# Altium footprint library bio_components.PcbLib: 2 footprints
Each footprint in its own frame and in the unit in brackets; x right, y up, seen from the top. Pads: shape width x height; smd on the part's side, far side on the other; paste and mask are expansions set on the pad; w line width, h text height; cw(c..) or ccw(c..) is an arc to the next point about the centre after c.
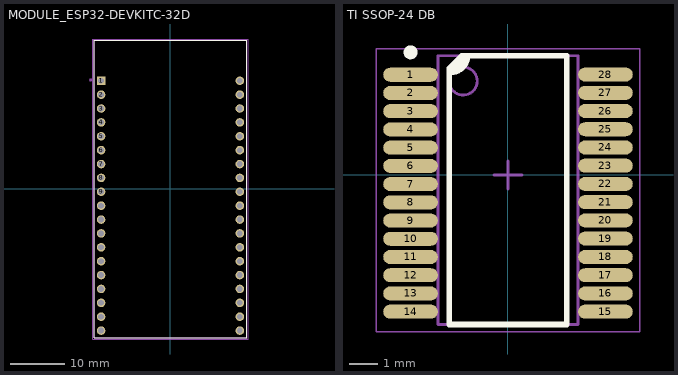
[diagram p0: the footprints below, top view; thin cyan lines are the x and y axes]

## MODULE_ESP32-DEVKITC-32D [mm]
pads (38):
  rect 1.56x1.56 hole 1.04: 1(-12.7,19.76)
  round 1.56 hole 1.04: 2(-12.7,17.22) 3(-12.7,14.68) 4(-12.7,12.14) 5(-12.7,9.6) 6(-12.7,7.06) 7(-12.7,4.52) 8(-12.7,1.98) 9(-12.7,-0.56) 10(-12.7,-3.1) 11(-12.7,-5.64) 12(-12.7,-8.18) 13(-12.7,-10.72) 14(-12.7,-13.26) 15(-12.7,-15.8) 16(-12.7,-18.34) 17(-12.7,-20.88) 18(-12.7,-23.42) 19(-12.7,-25.96) 20(12.7,19.76) 21(12.7,17.22) 22(12.7,14.68) 23(12.7,12.14) 24(12.7,9.6) 25(12.7,7.06) 26(12.7,4.52) 27(12.7,1.98) 28(12.7,-0.56) 29(12.7,-3.1) 30(12.7,-5.64) 31(12.7,-8.18) 32(12.7,-10.72) 33(12.7,-13.26) 34(12.7,-15.8) 35(12.7,-18.34) 36(12.7,-20.88) 37(12.7,-23.42) 38(12.7,-25.96)
Top Overlay:
  lines w0.127: -13.95,-27.25 -13.95,27.15 13.95,27.15 13.95,-27.25 -13.95,-27.25
Mechanical 13:
  circle w0.28: c-14.6,19.9 r0.14
  lines w0.127: -13.95,-27.25 13.95,-27.25 13.95,27.15 -13.95,27.15 -13.95,-27.25
Mechanical 15:
  lines w0.05: -14.2,-27.5 14.2,-27.5 14.2,27.4 -14.2,27.4 -14.2,-27.5
3D body "step_temp.STEP": height 8.25, standoff -4.44, extent -13.97,-24.8 13.97,30.3

## TI SSOP-24 DB [mm] "SSOP, 24-Leads, Body 8.20x5.30mm, Pitch 0.65mm, IPC Medium Density"
height 2
pads (28):
  oval 1.95x0.5 smd: 1(-3.475,3.575) 2(-3.475,2.925) 3(-3.475,2.275) 4(-3.475,1.625) 5(-3.475,0.975) 6(-3.475,0.325) 7(-3.475,-0.325) 8(-3.475,-0.975) 9(-3.475,-1.625) 10(-3.475,-2.275) 11(-3.475,-2.925) 12(-3.475,-3.575) 13(-3.475,-4.225) 14(-3.475,-4.875) 15(3.475,-4.875) 16(3.475,-4.225) 17(3.475,-3.575) 18(3.475,-2.925) 19(3.475,-2.269) 20(3.475,-1.619) 21(3.475,-0.969) 22(3.475,-0.319) 23(3.475,0.331) 24(3.475,0.981) 25(3.475,1.631) 26(3.475,2.281) 27(3.475,2.931) 28(3.475,3.581)
Top Overlay:
  circle w0.25: c-3.475,4.375 r0.125
  region: -2.05,3.65 -1.931,3.65 -1.71,3.741 -1.541,3.91 -1.45,4.131 -1.45,4.25 -1.75,4.25 -2.05,3.95
  lines w0.2: -2.05,3.65 ccw(c-2.05,4.25) -1.45,4.25 ; -2.1,-5.334 -2.1,3.8 -1.65,4.25 2.1,4.25 2.1,-5.334 -2.1,-5.334
Mechanical 13:
  circle w0.1: c-1.6,3.35 r0.5
  lines w0.1: -2.5,-5.334 2.5,-5.334 2.5,4.25 -2.5,4.25 -2.5,-5.334
Mechanical 15:
  lines w0.05: -4.7,-5.588 4.7,-5.588 4.7,4.5 -4.7,4.5 -4.7,-5.588
  lines w0.1: -0.5,0 0.5,0 ; 0,-0.5 0,0.5
3D body "SSOP-24-TI-DB.STEP": height 1.97, standoff 0, extent -4.037,-4.064 3.783,4.136